# EAGLE library part IM4*? (library radu-collected)
TE IM*? RF-compatible relays
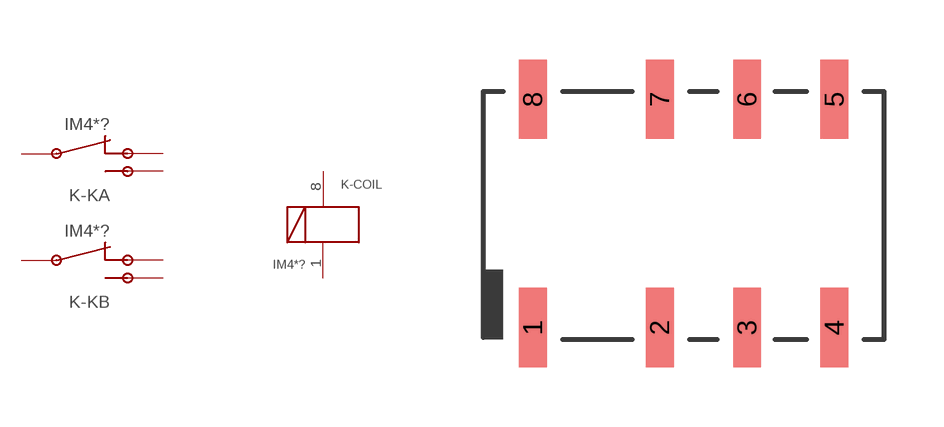
[diagram p14: symbol with the pads of IM*G; footprint IM*G]

Designator prefix K; gates -COIL=_GENERIC_RELAY_COIL_LATCHING -KA=_GENERIC_SPDTSWITCH -KB=_GENERIC_SPDTSWITCH

## IM40G, IM41G, IM42G, IM43G, IM44G, IM45G, IM46G, IM47G  [IM*G]
1  -COIL:+  pas
2  -KA:NC  pas
3  -KA:CO  pas
4  -KA:NO  pas
5  -KB:NO  pas
6  -KB:CO  pas
7  -KB:NC  pas
8  -COIL:-  pas

## Footprint IM*G (pad centres in mm)
TE IM*G relays
smd 0.7 x 2: 1 -3.75,-2.95; 2 -0.55,-2.95; 3 1.65,-2.95; 4 3.85,-2.95; 5 3.85,2.8; 6 1.65,2.8; 7 -0.55,2.8; 8 -3.75,2.8